# EAGLE library part FT245RL (library Zoli2_2015-02-22)
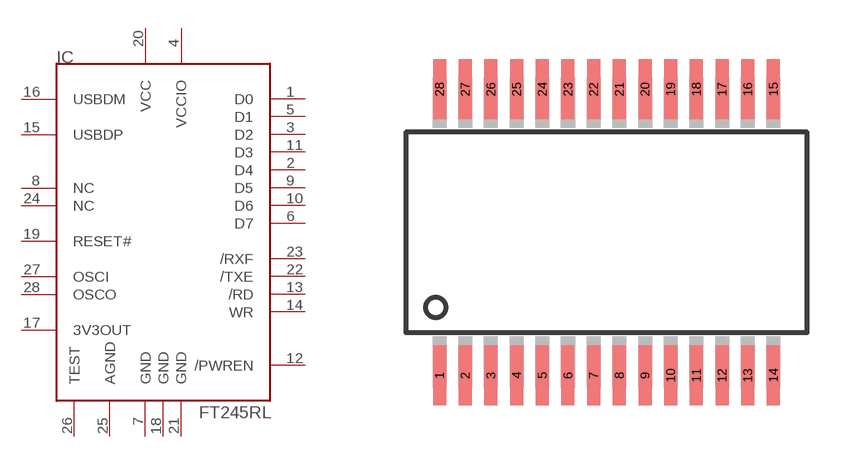
[diagram p24: symbol with the pads of SSOP28; footprint SSOP28]

Designator prefix IC

## FT245RL  [SSOP28]
1  D0
2  D4
3  D2
4  VCCIO  pwr
5  D1
6  D7
7  GND  pwr
8  NC  nc
9  D5
10  D6
11  D3
12  /PWREN
13  /RD
14  WR
15  USBDP
16  USBDM
17  3V3OUT  pwr
18  GND  pwr
19  RESET#
20  VCC  pwr
21  GND  pwr
22  /TXE
23  /RXF
24  NC  nc
25  AGND  pwr
26  TEST
27  OSCI
28  OSCO

## Footprint SSOP28 (pad centres in mm)
Shrink Small Outline Package package type SS
smd 0.33 x 1.524: 1 -4.225,-3.625; 2 -3.575,-3.625; 3 -2.925,-3.625; 4 -2.275,-3.625; 5 -1.625,-3.625; 6 -0.975,-3.625; 7 -0.325,-3.625; 8 0.325,-3.625; 9 0.975,-3.625; 10 1.625,-3.625; 11 2.275,-3.625; 12 2.925,-3.625; 13 3.575,-3.625; 14 4.225,-3.625; 15 4.225,3.625; 16 3.575,3.625; 17 2.925,3.625; 18 2.275,3.625; 19 1.625,3.625; 20 0.975,3.625; 21 0.325,3.625; 22 -0.325,3.625; 23 -0.975,3.625; 24 -1.625,3.625; 25 -2.275,3.625; 26 -2.925,3.625; 27 -3.575,3.625; 28 -4.225,3.625